# Altium footprint library CX3225SA40000D0PTWCC.PcbLib: 3 footprints
Each footprint in its own frame and in the unit in brackets; x right, y up, seen from the top. Pads: shape width x height; smd on the part's side, far side on the other; paste and mask are expansions set on the pad; w line width, h text height; cw(c..) or ccw(c..) is an arc to the next point about the centre after c.
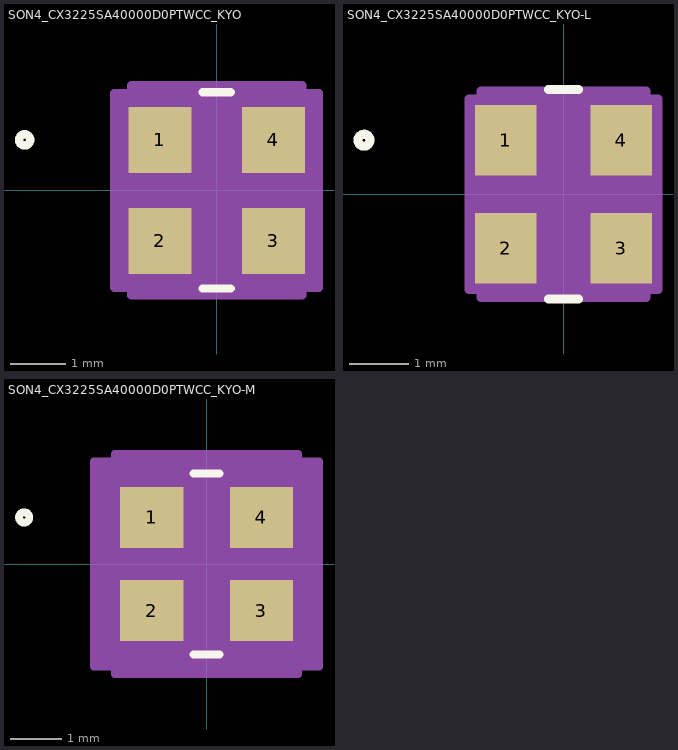
[diagram p0: the footprints below, top view; thin cyan lines are the x and y axes]

## SON4_CX3225SA40000D0PTWCC_KYO [mil]
pads (4):
  rect 45x47 smd paste+0 mask+0: 1(-40.5,36.02) 2(-40.5,-36.02) 3(40.5,-36.02) 4(40.5,36.02)
Top Overlay:
  circle w6: c-137.05,36.02 r4
  lines w6: -10.14,-70 10.14,-70 ; -10.14,70 10.14,70
Mechanical 13:
  circle w0: c-18,36.02 r3
  lines w0: -12,65 ccw(c0,65) 12,65
  lines w1: -51,-65 51,-65 51,65 -51,65 -51,-65
Mechanical 15:
  region: -61,-69.52 -73,-69.52 -73,69.52 -61,69.52 -61,75 61,75 61,69.52 73,69.52 73,-69.52 61,-69.52 61,-75 -61,-75
  lines w6: -73,-69.52 -73,69.52 -61,69.52 -61,75 61,75 61,69.52 73,69.52 73,-69.52 61,-69.52 61,-75 -61,-75 -61,-69.52 -73,-69.52
3D body "SON4_CX3225SA40000D0PTWCC_KYO.step": height 32.09, standoff 0, extent -50.98,-65 50.98,65

## SON4_CX3225SA40000D0PTWCC_KYO-L [mil]
pads (4):
  rect 41x47 smd paste+0 mask+0: 1(-38.5,36.02) 2(-38.5,-36.02) 3(38.5,-36.02) 4(38.5,36.02)
Top Overlay:
  circle w6: c-133.05,36.02 r4
  lines w6: -10.14,-70 10.14,-70 ; -10.14,70 10.14,70
Mechanical 13:
  circle w0: c-18,36.02 r3
  lines w0: -12,65 ccw(c0,65) 12,65
  lines w1: -51,-65 51,-65 51,65 -51,65 -51,-65
Mechanical 15:
  region: -55,-63.52 -63,-63.52 -63,63.52 -55,63.52 -55,69 55,69 55,63.52 63,63.52 63,-63.52 55,-63.52 55,-69 -55,-69
  lines w6: -63,-63.52 -63,63.52 -55,63.52 -55,69 55,69 55,63.52 63,63.52 63,-63.52 55,-63.52 55,-69 -55,-69 -55,-63.52 -63,-63.52
3D body "SON4_CX3225SA40000D0PTWCC_KYO.step": height 32.09, standoff 0, extent -50.98,-65 50.98,65

## SON4_CX3225SA40000D0PTWCC_KYO-M [mil]
pads (4):
  rect 49x47 smd paste+0 mask+0: 1(-42.5,36.02) 2(-42.5,-36.02) 3(42.5,-36.02) 4(42.5,36.02)
Top Overlay:
  circle w6: c-141.05,36.02 r4
  lines w6: -10.14,-70 10.14,-70 ; -10.14,70 10.14,70
Mechanical 13:
  circle w0: c-18,36.02 r3
  lines w0: -12,65 ccw(c0,65) 12,65
  lines w1: -51,-65 51,-65 51,65 -51,65 -51,-65
Mechanical 15:
  region: -71,-79.52 -87,-79.52 -87,79.52 -71,79.52 -71,85 71,85 71,79.52 87,79.52 87,-79.52 71,-79.52 71,-85 -71,-85
  lines w6: -87,-79.52 -87,79.52 -71,79.52 -71,85 71,85 71,79.52 87,79.52 87,-79.52 71,-79.52 71,-85 -71,-85 -71,-79.52 -87,-79.52
3D body "SON4_CX3225SA40000D0PTWCC_KYO.step": height 32.09, standoff 0, extent -50.98,-65 50.98,65